# EAGLE library part STM32L072KZU6 (library circuit_tree)
IC
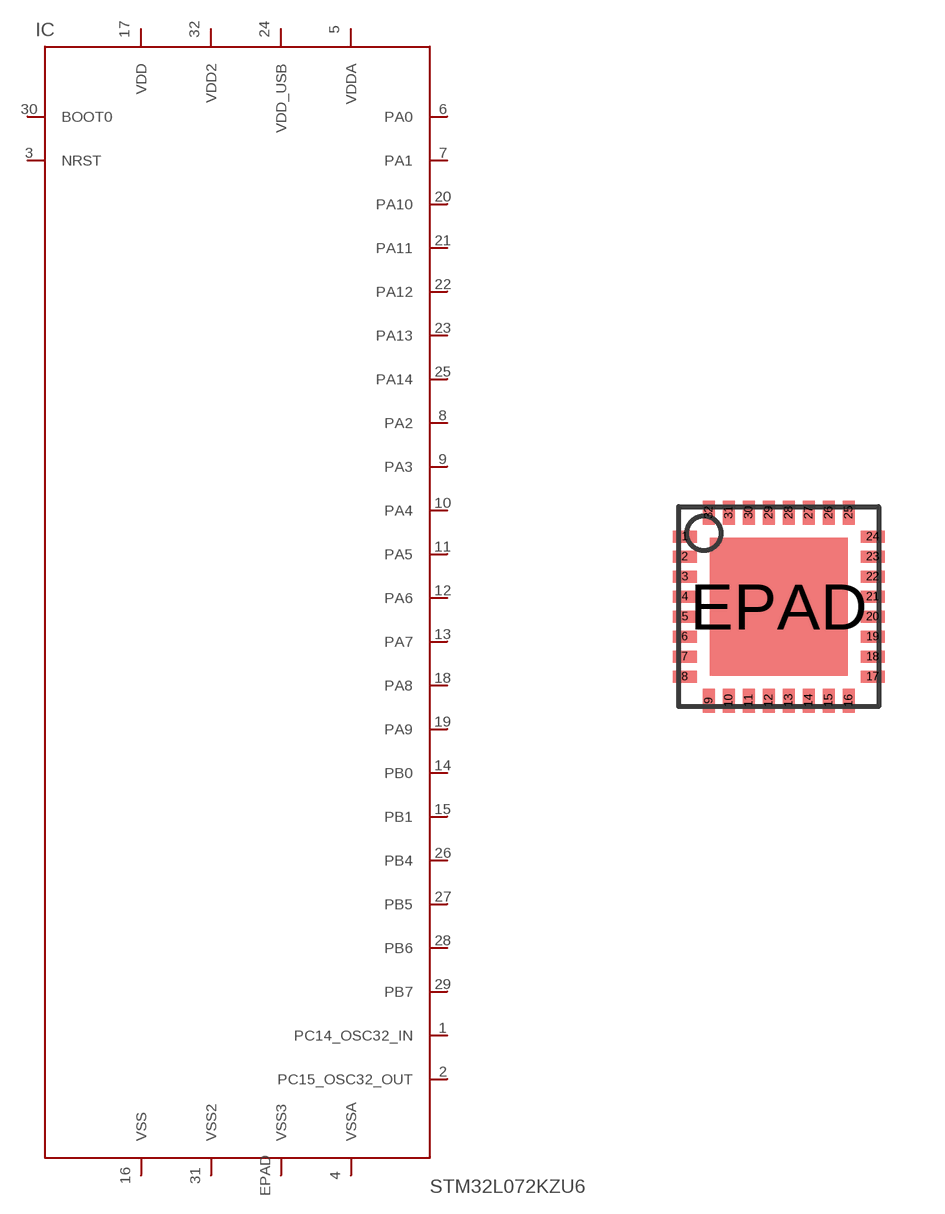
[diagram p3: symbol with the pads of UFQFPN32; footprint UFQFPN32]

Designator prefix IC

## STM32L072KZU6  [UFQFPN32]
1  PC14_OSC32_IN  pas
2  PC15_OSC32_OUT  pas
3  NRST  pas
4  VSSA  pas
5  VDDA  pas
6  PA0  pas
7  PA1  pas
8  PA2  pas
9  PA3  pas
10  PA4  pas
11  PA5  pas
12  PA6  pas
13  PA7  pas
14  PB0  pas
15  PB1  pas
16  VSS  pas
17  VDD  pas
18  PA8  pas
19  PA9  pas
20  PA10  pas
21  PA11  pas
22  PA12  pas
23  PA13  pas
24  VDD_USB  pas
25  PA14  pas
26  PB4  pas
27  PB5  pas
28  PB6  pas
29  PB7  pas
30  BOOT0  pas
31  VSS2  pas
32  VDD2  pas
EPAD  VSS3  pas

## Footprint UFQFPN32 (pad centres in mm)
UFQFPN32 5 x 5 mm, 32-pin ultra thin fine pitch quad flat no-lead package
smd 0.6 x 0.3: 1 -2.35,1.75; 2 -2.35,1.25; 3 -2.35,0.75; 4 -2.35,0.25; 5 -2.35,-0.25; 6 -2.35,-0.75; 7 -2.35,-1.25; 8 -2.35,-1.75; 17 2.35,-1.75; 18 2.35,-1.25; 19 2.35,-0.75; 20 2.35,-0.25; 21 2.35,0.25; 22 2.35,0.75; 23 2.35,1.25; 24 2.35,1.75
smd 0.3 x 0.6: 9 -1.75,-2.35; 10 -1.25,-2.35; 11 -0.75,-2.35; 12 -0.25,-2.35; 13 0.25,-2.35; 14 0.75,-2.35; 15 1.25,-2.35; 16 1.75,-2.35; 25 1.75,2.35; 26 1.25,2.35; 27 0.75,2.35; 28 0.25,2.35; 29 -0.25,2.35; 30 -0.75,2.35; 31 -1.25,2.35; 32 -1.75,2.35
smd 3.45 x 3.45: EPAD 0,0